# Altium schematic symbol library Ferrite_beads.SchLib: 1 symbol
Pins are listed as number, name and electrical type; pins without a type are passive.

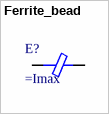
[diagram p0: symbol Ferrite_bead]

## Ferrite_bead
designator E?
pins: 1, 2